# EAGLE library part ADAFRUIT-BNO055 (library AUX, Adafruit IMUs - BNO055 and FX)
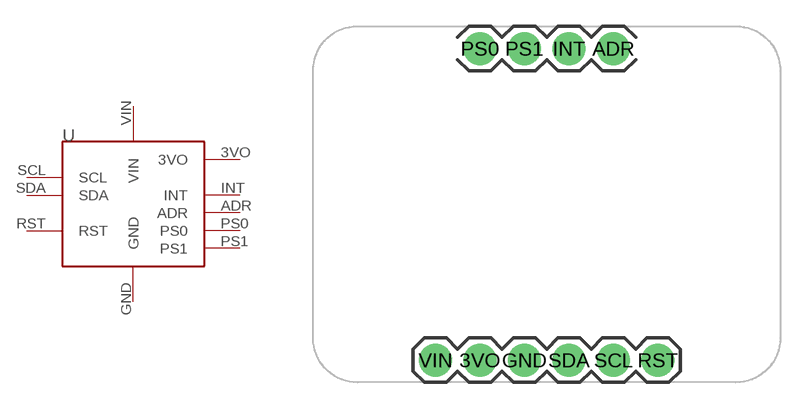
[diagram p0: symbol with the pads of ADAFRUIT-BNO055; footprint ADAFRUIT-BNO055]

Designator prefix -

## ADAFRUIT-BNO055  [ADAFRUIT-BNO055]
3VO  3VO  pwr
ADR  ADR  in
GND  GND  pwr
INT  INT  out
PS0  PS0  in
PS1  PS1  in
RST  RST  in
SCL  SCL
SDA  SDA
VIN  VIN  pwr

## Footprint ADAFRUIT-BNO055 (pad centres in mm)
drill 1.016 pad 1.88: 3VO 9.525,1.27; ADR 17.145,19.05; GND 12.065,1.27; INT 14.605,19.05; PS0 9.525,19.05; PS1 12.065,19.05; RST 19.685,1.27; SCL 17.145,1.27; SDA 14.605,1.27; VIN 6.985,1.27